# Altium schematic symbol library SCH - POWER - LINEAR VREG - AD ADP7182 LFCSP8 ADJ.SchLib: 1 symbol
Pins are listed as number, name and electrical type; pins without a type are passive.

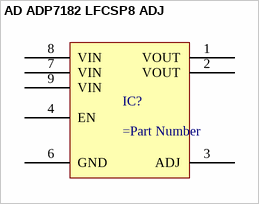
[diagram p0: symbol AD ADP7182 LFCSP8 ADJ]

## AD ADP7182 LFCSP8 ADJ
designator IC?
pins: 1 VOUT, 2 VOUT, 3 ADJ, 4 EN, 6 GND, 7 VIN, 8 VIN, 9 VIN